# Altium footprint library EVQP2P02M.PcbLib: 1 footprints
Each footprint in its own frame and in the unit in brackets; x right, y up, seen from the top. Pads: shape width x height; smd on the part's side, far side on the other; paste and mask are expansions set on the pad; w line width, h text height; cw(c..) or ccw(c..) is an arc to the next point about the centre after c.
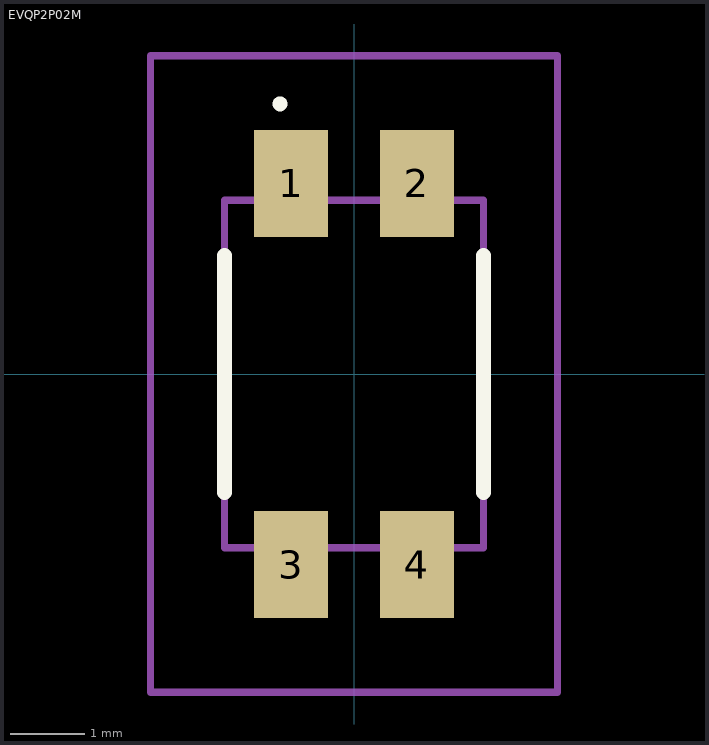
[diagram p0: the footprint, top view; thin cyan lines are the x and y axes]

## EVQP2P02M [mm]
pads (4):
  rect 1x1.45 smd: 1(-0.85,2.575) 2(0.85,2.575) 3(-0.85,-2.575) 4(0.85,-2.575)
Top Overlay:
  lines w0.1: -1,3.6 -1,3.6 ; -1,3.6 ccw(c-1,3.65) -1,3.7 ; -1,3.6 cw(c-1,3.65) -1,3.7 ; -1,3.6 -1,3.6 ; -1,3.6 ccw(c-1,3.65) -1,3.7 ; -1,3.7 -1,3.7
  lines w0.2: -1.75,-1.6 -1.75,1.6 ; 1.75,-1.6 1.75,1.6
Mechanical 15:
  lines w0.1: -1.75,-2.35 1.75,-2.35 1.75,2.35 -1.75,2.35 -1.75,-2.35
Mechanical 20:
  lines w0.1: -2.75,-4.3 2.75,-4.3 2.75,4.3 -2.75,4.3 -2.75,-4.3